# EAGLE library part USB-C (library ch552)
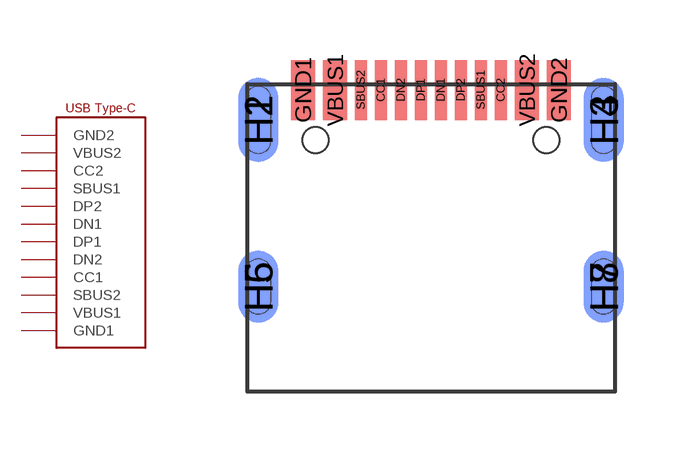
[diagram p1: symbol with the pads of USB-C; footprint USB-C]

Designator prefix -

## USB-C  [USB-C]
CC1  CC1
CC2  CC2
DN1  DN1
DN2  DN2
DP1  DP1
DP2  DP2
GND1  GND1
GND2  GND2
SBUS1  SBUS1
SBUS2  SBUS2
VBUS1  VBUS1
VBUS2  VBUS2

## Footprint USB-C (pad centres in mm)
smd 0.3 x 1.5: CC1 -1.25,0.25; CC2 1.75,0.25; DN1 0.25,0.25; DN2 -0.75,0.25; DP1 -0.25,0.25; DP2 0.75,0.25; SBUS1 1.25,0.25; SBUS2 -1.75,0.25
smd 0.6 x 1.5: GND1 -3.2,0.25; GND2 3.2,0.25; VBUS1 -2.4,0.25; VBUS2 2.4,0.25
smd 1 x 2.1 bottom: H1 -4.32,-0.5; H4 4.32,-0.5
smd 1 x 2.1: H2 -4.32,-0.5; H3 4.32,-0.5
smd 1 x 1.8: H5 -4.32,-4.67; H7 4.32,-4.67
smd 1 x 1.8 bottom: H6 -4.32,-4.67; H8 4.32,-4.67
hole 0.65 at -2.89,-1
hole 0.65 at 2.89,-1